# EAGLE library part TDA1554Q (library Oles komponentbibliotek)
4x11 W or 2 x 22 W car radio power amplifier
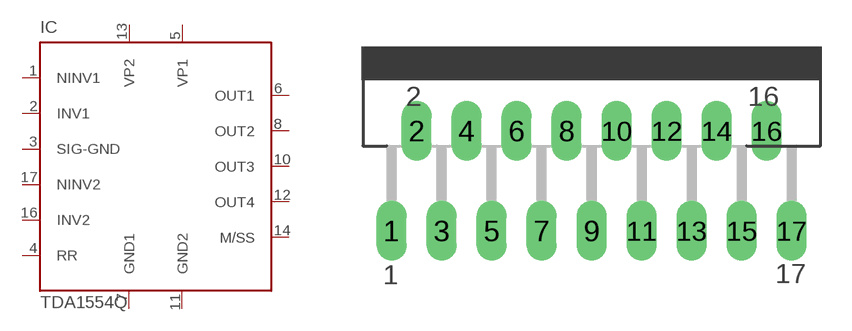
[diagram p3: symbol with the pads of MULTIWAT-SIL17; footprint MULTIWAT-SIL17]

Designator prefix IC

## TDA1554Q  [MULTIWAT-SIL17]
1  NINV1  in
2  INV1  in
3  SIG-GND  in
4  RR  in
5  VP1  pwr
6  OUT1  out
7  GND1  pwr
8  OUT2  out
10  OUT3  out
11  GND2  pwr
12  OUT4  out
13  VP2  pwr
14  M/SS  in
16  INV2  in
17  NINV2  in

## Footprint MULTIWAT-SIL17 (pad centres in mm)
DBS17P plastic DIL-bent-SIL power package 17 leads (lead length 12 mm) SOT243-1
drill 1.016 long: 1 -10.16,-7.62; 2 -8.89,-2.54; 3 -7.62,-7.62; 4 -6.35,-2.54; 5 -5.08,-7.62; 6 -3.81,-2.54; 7 -2.54,-7.62; 8 -1.27,-2.54; 9 0,-7.62; 10 1.27,-2.54; 11 2.54,-7.62; 12 3.81,-2.54; 13 5.08,-7.62; 14 6.35,-2.54; 15 7.62,-7.62; 16 8.89,-2.54; 17 10.16,-7.62